# Altium integrated library Analog Devices MEMS Inertial Sensors.IntLib: 109 symbols (part 3 of 6)
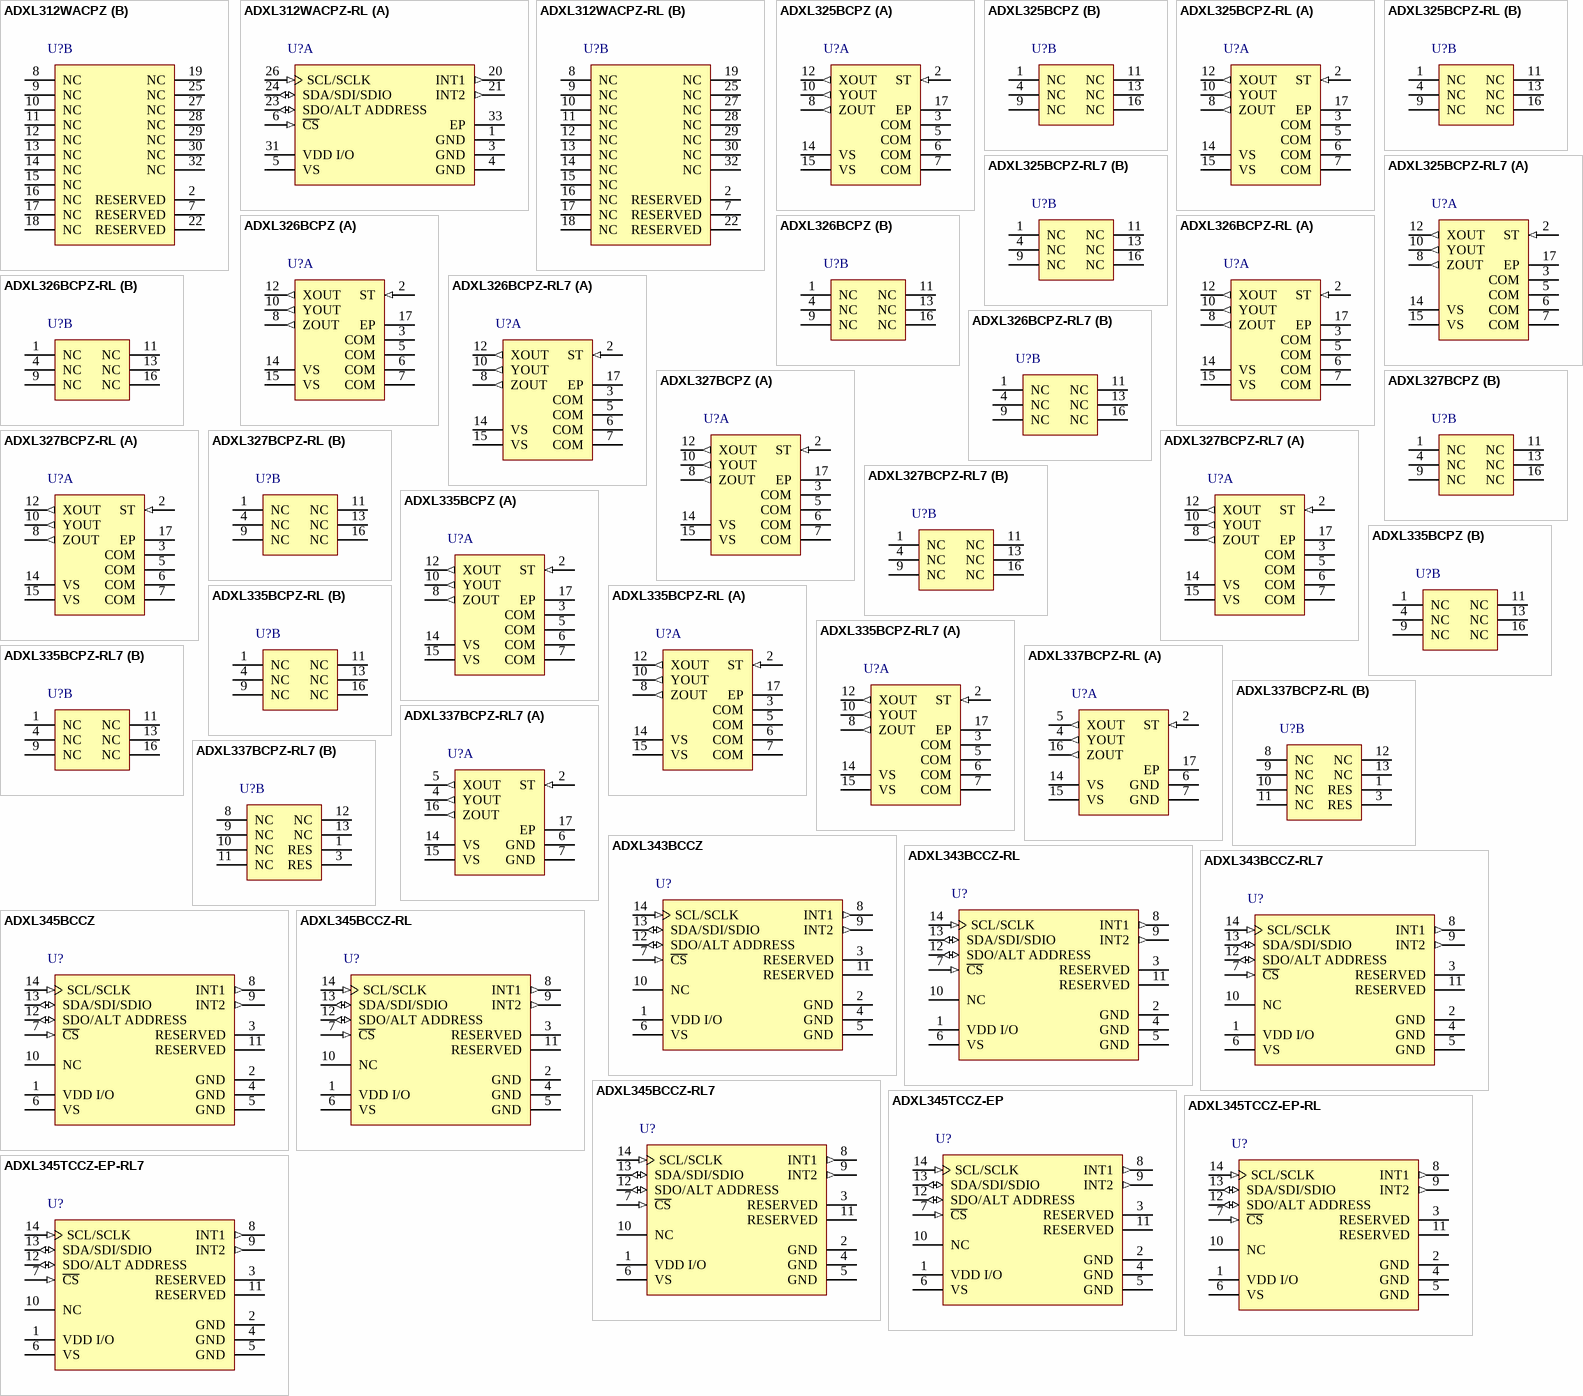
[diagram p7: symbols ADXL312WACPZ to ADXL345TCCZ-EP-RL7]

## ADXL325BCPZ-RL7
designator U?
Small, Low Power, 3-Axis +/-5 g Accelerometer with Analog Output, 1.6 KHz BW, Industrial, 16-pin QFN, Reel; Manufacturer: Analog Devices; PartNumber: ADXL325BCPZ-RL7; # of Axes: 3; -3dB Bandwidth: 1.6 KHz; Sensitivity: 174 mV/g; Supply Current: 350 uA; Voltage Supply (V): 1.8 to 3.6; DatasheetVersion: Rev. 0; PackageVersion: 072606-0, 07/2006; PackageReference: CP-16-5a; PackageDescription: 16-Pin Lead Frame Chip Scale Package, 4 x 4 mm Body, 0.65 mm Pitch; Supplier 1: Digi-Key; Supplier Part Number 1: ADXL325BCPZ-RL7TR-ND; Supplier 2: Digi-Key; Supplier Part Number 2: ADXL325BCPZ-RL7CT-ND; Supplier 3: Digi-Key; Supplier Part Number 3: ADXL325BCPZ-RL7DKR-ND; Supplier 4: Newark; Supplier Part Number 4: 05R6563; Supplier 5: Mouser; Supplier Part Number 5: 584-ADXL325BCPZ-R7; Output Type: Analog; Packing: Reel; Mounting Technology: Surface Mount; ComponentLink1Description: Manufacturer URL; ComponentLink1URL: http://www.analog.com/en/index.html; ComponentLink2Description: Datasheet; ComponentLink2URL: http://www.analog.com/static/imported-files/data_sheets/ADXL325.pdf; ComponentLink3Description: Package Specification; ComponentLink3URL: http:/www.analog.com/static/imported-files/packages/45789401034275374892178CP_16_5a.pdf; ComponentLink4Description: Product URL; ComponentLink4URL: http://www.analog.com/en/mems-sensors/mems-inertial-sensors/adxl325/products/product.html
footprint ADI-CP-16-5a_N (QFN, 16-Leads, Body 4x4mm, Pitch 0.65mm, Thermal Pad 1.75x1.75mm, IPC Medium Density)
footprint ADI-CP-16-5a_L (QFN, 16-Leads, Body 4x4mm, Pitch 0.65mm, Thermal Pad 1.75x1.75mm, IPC High Density)
footprint ADI-CP-16-5a_M (QFN, 16-Leads, Body 4x4mm, Pitch 0.65mm, Thermal Pad 1.75x1.75mm, IPC Low Density)
part A pins: 2 ST (in) "Self-Test.", 3 COM (power) "Common.", 5 COM (power) "Common.", 6 COM (power) "Common.", 7 COM (power) "Common.", 8 ZOUT (out) "Z Channel Output.", 10 YOUT (out) "Y Channel Output.", 12 XOUT (out) "X Channel Output.", 14 VS (power) "Supply Voltage (1.8 V to 3.6 V).", 15 VS (power) "Supply Voltage (1.8 V to 3.6 V).", 17 EP "Not internally connected. Solder for mechanical integrity."
part B pins: 1 NC "No Connect.", 4 NC "No Connect.", 9 NC "No Connect.", 11 NC "No Connect.", 13 NC "No Connect.", 16 NC "No Connect."

## ADXL326BCPZ
designator U?
Small, Low Power, 3-Axis +/-16 g Accelerometer with Analog Output, 1.6 KHz BW, Industrial, 16-pin QFN, Tray; Manufacturer: Analog Devices; PartNumber: ADXL326BCPZ; # of Axes: 3; -3dB Bandwidth: 1.6 KHz; Sensitivity: 57 mV/g; Supply Current: 350 uA; Voltage Supply (V): 1.8 to 3.6; DatasheetVersion: Rev. 0; PackageVersion: 072606-0, 07/2006; PackageReference: CP-16-5a; PackageDescription: 16-Pin Lead Frame Chip Scale Package, 4 x 4 mm Body, 0.65 mm Pitch; Supplier 1: Digi-Key; Supplier Part Number 1: ADXL326BCPZ-ND; Supplier 2: Farnell; Supplier Part Number 2: 1786065; Supplier 3: Newark; Supplier Part Number 3: 05R6564; Supplier 4: Mouser; Supplier Part Number 4: 584-ADXL326BCPZ; Output Type: Analog; Packing: Tray; Mounting Technology: Surface Mount; ComponentLink1Description: Manufacturer URL; ComponentLink1URL: http://www.analog.com/en/index.html; ComponentLink2Description: Datasheet; ComponentLink2URL: http://www.analog.com/static/imported-files/data_sheets/ADXL326.pdf; ComponentLink3Description: Package Specification; ComponentLink3URL: http:/www.analog.com/static/imported-files/packages/45789401034275374892178CP_16_5a.pdf; ComponentLink4Description: Product URL; ComponentLink4URL: http://www.analog.com/en/mems-sensors/mems-inertial-sensors/adxl326/products/product.html
footprint ADI-CP-16-5a_N (QFN, 16-Leads, Body 4x4mm, Pitch 0.65mm, Thermal Pad 1.75x1.75mm, IPC Medium Density)
footprint ADI-CP-16-5a_L (QFN, 16-Leads, Body 4x4mm, Pitch 0.65mm, Thermal Pad 1.75x1.75mm, IPC High Density)
footprint ADI-CP-16-5a_M (QFN, 16-Leads, Body 4x4mm, Pitch 0.65mm, Thermal Pad 1.75x1.75mm, IPC Low Density)
part A pins: 2 ST (in) "Self-Test.", 3 COM (power) "Common.", 5 COM (power) "Common.", 6 COM (power) "Common.", 7 COM (power) "Common.", 8 ZOUT (out) "Z Channel Output.", 10 YOUT (out) "Y Channel Output.", 12 XOUT (out) "X Channel Output.", 14 VS (power) "Supply Voltage (1.8 V to 3.6 V).", 15 VS (power) "Supply Voltage (1.8 V to 3.6 V).", 17 EP "Not internally connected. Solder for mechanical integrity."
part B pins: 1 NC "No Connect.", 4 NC "No Connect.", 9 NC "No Connect.", 11 NC "No Connect.", 13 NC "No Connect.", 16 NC "No Connect."

## ADXL326BCPZ-RL
designator U?
Small, Low Power, 3-Axis +/-16 g Accelerometer with Analog Output, 1.6 KHz BW, Industrial, 16-pin QFN, Reel; Manufacturer: Analog Devices; PartNumber: ADXL326BCPZ-RL; # of Axes: 3; -3dB Bandwidth: 1.6 KHz; Sensitivity: 57 mV/g; Supply Current: 350 uA; Voltage Supply (V): 1.8 to 3.6; DatasheetVersion: Rev. 0; PackageVersion: 072606-0, 07/2006; PackageReference: CP-16-5a; PackageDescription: 16-Pin Lead Frame Chip Scale Package, 4 x 4 mm Body, 0.65 mm Pitch; Supplier 1: Digi-Key; Supplier Part Number 1: ADXL326BCPZ-RL-ND; Supplier 2: Newark; Supplier Part Number 2: 05R6565; Supplier 3: Mouser; Supplier Part Number 3: 584-ADXL326BCPZ-R; Output Type: Analog; Packing: Reel; Mounting Technology: Surface Mount; ComponentLink1Description: Manufacturer URL; ComponentLink1URL: http://www.analog.com/en/index.html; ComponentLink2Description: Datasheet; ComponentLink2URL: http://www.analog.com/static/imported-files/data_sheets/ADXL326.pdf; ComponentLink3Description: Package Specification; ComponentLink3URL: http:/www.analog.com/static/imported-files/packages/45789401034275374892178CP_16_5a.pdf; ComponentLink4Description: Product URL; ComponentLink4URL: http://www.analog.com/en/mems-sensors/mems-inertial-sensors/adxl326/products/product.html
footprint ADI-CP-16-5a_N (QFN, 16-Leads, Body 4x4mm, Pitch 0.65mm, Thermal Pad 1.75x1.75mm, IPC Medium Density)
footprint ADI-CP-16-5a_L (QFN, 16-Leads, Body 4x4mm, Pitch 0.65mm, Thermal Pad 1.75x1.75mm, IPC High Density)
footprint ADI-CP-16-5a_M (QFN, 16-Leads, Body 4x4mm, Pitch 0.65mm, Thermal Pad 1.75x1.75mm, IPC Low Density)
part A pins: 2 ST (in) "Self-Test.", 3 COM (power) "Common.", 5 COM (power) "Common.", 6 COM (power) "Common.", 7 COM (power) "Common.", 8 ZOUT (out) "Z Channel Output.", 10 YOUT (out) "Y Channel Output.", 12 XOUT (out) "X Channel Output.", 14 VS (power) "Supply Voltage (1.8 V to 3.6 V).", 15 VS (power) "Supply Voltage (1.8 V to 3.6 V).", 17 EP "Not internally connected. Solder for mechanical integrity."
part B pins: 1 NC "No Connect.", 4 NC "No Connect.", 9 NC "No Connect.", 11 NC "No Connect.", 13 NC "No Connect.", 16 NC "No Connect."

## ADXL326BCPZ-RL7
designator U?
Small, Low Power, 3-Axis +/-16 g Accelerometer with Analog Output, 1.6 KHz BW, Industrial, 16-pin QFN, Reel; Manufacturer: Analog Devices; PartNumber: ADXL326BCPZ-RL7; # of Axes: 3; -3dB Bandwidth: 1.6 KHz; Sensitivity: 57 mV/g; Supply Current: 350 uA; Voltage Supply (V): 1.8 to 3.6; DatasheetVersion: Rev. 0; PackageVersion: 072606-0, 07/2006; PackageReference: CP-16-5a; PackageDescription: 16-Pin Lead Frame Chip Scale Package, 4 x 4 mm Body, 0.65 mm Pitch; Supplier 1: Digi-Key; Supplier Part Number 1: ADXL326BCPZ-RL7TR-ND; Supplier 2: Digi-Key; Supplier Part Number 2: ADXL326BCPZ-RL7CT-ND; Supplier 3: Digi-Key; Supplier Part Number 3: ADXL326BCPZ-RL7DKR-ND; Supplier 4: Mouser; Supplier Part Number 4: 584-ADXL326BCPZ-R7; Output Type: Analog; Packing: Reel; Mounting Technology: Surface Mount; ComponentLink1Description: Manufacturer URL; ComponentLink1URL: http://www.analog.com/en/index.html; ComponentLink2Description: Datasheet; ComponentLink2URL: http://www.analog.com/static/imported-files/data_sheets/ADXL326.pdf; ComponentLink3Description: Package Specification; ComponentLink3URL: http:/www.analog.com/static/imported-files/packages/45789401034275374892178CP_16_5a.pdf; ComponentLink4Description: Product URL; ComponentLink4URL: http://www.analog.com/en/mems-sensors/mems-inertial-sensors/adxl326/products/product.html
footprint ADI-CP-16-5a_N (QFN, 16-Leads, Body 4x4mm, Pitch 0.65mm, Thermal Pad 1.75x1.75mm, IPC Medium Density)
footprint ADI-CP-16-5a_L (QFN, 16-Leads, Body 4x4mm, Pitch 0.65mm, Thermal Pad 1.75x1.75mm, IPC High Density)
footprint ADI-CP-16-5a_M (QFN, 16-Leads, Body 4x4mm, Pitch 0.65mm, Thermal Pad 1.75x1.75mm, IPC Low Density)
part A pins: 2 ST (in) "Self-Test.", 3 COM (power) "Common.", 5 COM (power) "Common.", 6 COM (power) "Common.", 7 COM (power) "Common.", 8 ZOUT (out) "Z Channel Output.", 10 YOUT (out) "Y Channel Output.", 12 XOUT (out) "X Channel Output.", 14 VS (power) "Supply Voltage (1.8 V to 3.6 V).", 15 VS (power) "Supply Voltage (1.8 V to 3.6 V).", 17 EP "Not internally connected. Solder for mechanical integrity."
part B pins: 1 NC "No Connect.", 4 NC "No Connect.", 9 NC "No Connect.", 11 NC "No Connect.", 13 NC "No Connect.", 16 NC "No Connect."

## ADXL327BCPZ
designator U?
Small, Low Power, 3-Axis +/-2 g Accelerometer with Analog Output, 1.6 KHz BW, Industrial, 16-pin QFN, Tray; Manufacturer: Analog Devices; PartNumber: ADXL327BCPZ; # of Axes: 3; -3dB Bandwidth: 1.6 KHz; Sensitivity: 420 mV/g; Supply Current: 350 uA; Voltage Supply (V): 1.8 to 3.6; DatasheetVersion: Rev. 0; PackageVersion: 072606-0, 07/2006; PackageReference: CP-16-5a; PackageDescription: 16-Pin Lead Frame Chip Scale Package, 4 x 4 mm Body, 0.65 mm Pitch; Supplier 1: Digi-Key; Supplier Part Number 1: ADXL327BCPZ-ND; Supplier 2: Farnell; Supplier Part Number 2: 1786066; Supplier 3: Newark; Supplier Part Number 3: 05R6567; Supplier 4: Mouser; Supplier Part Number 4: 584-ADXL327BCPZ; Output Type: Analog; Packing: Tray; Mounting Technology: Surface Mount; ComponentLink1Description: Manufacturer URL; ComponentLink1URL: http://www.analog.com/en/index.html; ComponentLink2Description: Datasheet; ComponentLink2URL: http://www.analog.com/static/imported-files/data_sheets/ADXL327.pdf; ComponentLink3Description: Package Specification; ComponentLink3URL: http:/www.analog.com/static/imported-files/packages/45789401034275374892178CP_16_5a.pdf; ComponentLink4Description: Product URL; ComponentLink4URL: http://www.analog.com/en/mems-sensors/mems-inertial-sensors/adxl327/products/product.html
footprint ADI-CP-16-5a_N (QFN, 16-Leads, Body 4x4mm, Pitch 0.65mm, Thermal Pad 1.75x1.75mm, IPC Medium Density)
footprint ADI-CP-16-5a_L (QFN, 16-Leads, Body 4x4mm, Pitch 0.65mm, Thermal Pad 1.75x1.75mm, IPC High Density)
footprint ADI-CP-16-5a_M (QFN, 16-Leads, Body 4x4mm, Pitch 0.65mm, Thermal Pad 1.75x1.75mm, IPC Low Density)
part A pins: 2 ST (in) "Self-Test.", 3 COM (power) "Common.", 5 COM (power) "Common.", 6 COM (power) "Common.", 7 COM (power) "Common.", 8 ZOUT (out) "Z Channel Output.", 10 YOUT (out) "Y Channel Output.", 12 XOUT (out) "X Channel Output.", 14 VS (power) "Supply Voltage (1.8 V to 3.6 V).", 15 VS (power) "Supply Voltage (1.8 V to 3.6 V).", 17 EP "Not internally connected. Solder for mechanical integrity."
part B pins: 1 NC "No Connect.", 4 NC "No Connect.", 9 NC "No Connect.", 11 NC "No Connect.", 13 NC "No Connect.", 16 NC "No Connect."

## ADXL327BCPZ-RL
designator U?
Small, Low Power, 3-Axis +/-2 g Accelerometer with Analog Output, 1.6 KHz BW, Industrial, 16-pin QFN, Reel; Manufacturer: Analog Devices; PartNumber: ADXL327BCPZ-RL; # of Axes: 3; -3dB Bandwidth: 1.6 KHz; Sensitivity: 420 mV/g; Supply Current: 350 uA; Voltage Supply (V): 1.8 to 3.6; DatasheetVersion: Rev. 0; PackageVersion: 072606-0, 07/2006; PackageReference: CP-16-5a; PackageDescription: 16-Pin Lead Frame Chip Scale Package, 4 x 4 mm Body, 0.65 mm Pitch; Supplier 1: Digi-Key; Supplier Part Number 1: ADXL327BCPZ-RL-ND; Supplier 2: Newark; Supplier Part Number 2: 05R6568; Supplier 3: Mouser; Supplier Part Number 3: 584-ADXL327BCPZ-R; Output Type: Analog; Packing: Reel; Mounting Technology: Surface Mount; ComponentLink1Description: Manufacturer URL; ComponentLink1URL: http://www.analog.com/en/index.html; ComponentLink2Description: Datasheet; ComponentLink2URL: http://www.analog.com/static/imported-files/data_sheets/ADXL327.pdf; ComponentLink3Description: Package Specification; ComponentLink3URL: http:/www.analog.com/static/imported-files/packages/45789401034275374892178CP_16_5a.pdf; ComponentLink4Description: Product URL; ComponentLink4URL: http://www.analog.com/en/mems-sensors/mems-inertial-sensors/adxl327/products/product.html
footprint ADI-CP-16-5a_N (QFN, 16-Leads, Body 4x4mm, Pitch 0.65mm, Thermal Pad 1.75x1.75mm, IPC Medium Density)
footprint ADI-CP-16-5a_L (QFN, 16-Leads, Body 4x4mm, Pitch 0.65mm, Thermal Pad 1.75x1.75mm, IPC High Density)
footprint ADI-CP-16-5a_M (QFN, 16-Leads, Body 4x4mm, Pitch 0.65mm, Thermal Pad 1.75x1.75mm, IPC Low Density)
part A pins: 2 ST (in) "Self-Test.", 3 COM (power) "Common.", 5 COM (power) "Common.", 6 COM (power) "Common.", 7 COM (power) "Common.", 8 ZOUT (out) "Z Channel Output.", 10 YOUT (out) "Y Channel Output.", 12 XOUT (out) "X Channel Output.", 14 VS (power) "Supply Voltage (1.8 V to 3.6 V).", 15 VS (power) "Supply Voltage (1.8 V to 3.6 V).", 17 EP "Not internally connected. Solder for mechanical integrity."
part B pins: 1 NC "No Connect.", 4 NC "No Connect.", 9 NC "No Connect.", 11 NC "No Connect.", 13 NC "No Connect.", 16 NC "No Connect."

## ADXL327BCPZ-RL7
designator U?
Small, Low Power, 3-Axis +/-2 g Accelerometer with Analog Output, 1.6 KHz BW, Industrial, 16-pin QFN, Reel; Manufacturer: Analog Devices; PartNumber: ADXL327BCPZ-RL7; # of Axes: 3; -3dB Bandwidth: 1.6 KHz; Sensitivity: 420 mV/g; Supply Current: 350 uA; Voltage Supply (V): 1.8 to 3.6; DatasheetVersion: Rev. 0; PackageVersion: 072606-0, 07/2006; PackageReference: CP-16-5a; PackageDescription: 16-Pin Lead Frame Chip Scale Package, 4 x 4 mm Body, 0.65 mm Pitch; Supplier 1: Digi-Key; Supplier Part Number 1: ADXL327BCPZ-RL7TR-ND; Supplier 2: Digi-Key; Supplier Part Number 2: ADXL327BCPZ-RL7CT-ND; Supplier 3: Digi-Key; Supplier Part Number 3: ADXL327BCPZ-RL7DKR-ND; Supplier 4: Newark; Supplier Part Number 4: 05R6569; Supplier 5: Mouser; Supplier Part Number 5: 584-ADXL327BCPZ-R7; Output Type: Analog; Packing: Reel; Mounting Technology: Surface Mount; ComponentLink1Description: Manufacturer URL; ComponentLink1URL: http://www.analog.com/en/index.html; ComponentLink2Description: Datasheet; ComponentLink2URL: http://www.analog.com/static/imported-files/data_sheets/ADXL327.pdf; ComponentLink3Description: Package Specification; ComponentLink3URL: http:/www.analog.com/static/imported-files/packages/45789401034275374892178CP_16_5a.pdf; ComponentLink4Description: Product URL; ComponentLink4URL: http://www.analog.com/en/mems-sensors/mems-inertial-sensors/adxl327/products/product.html
footprint ADI-CP-16-5a_N (QFN, 16-Leads, Body 4x4mm, Pitch 0.65mm, Thermal Pad 1.75x1.75mm, IPC Medium Density)
footprint ADI-CP-16-5a_L (QFN, 16-Leads, Body 4x4mm, Pitch 0.65mm, Thermal Pad 1.75x1.75mm, IPC High Density)
footprint ADI-CP-16-5a_M (QFN, 16-Leads, Body 4x4mm, Pitch 0.65mm, Thermal Pad 1.75x1.75mm, IPC Low Density)
part A pins: 2 ST (in) "Self-Test.", 3 COM (power) "Common.", 5 COM (power) "Common.", 6 COM (power) "Common.", 7 COM (power) "Common.", 8 ZOUT (out) "Z Channel Output.", 10 YOUT (out) "Y Channel Output.", 12 XOUT (out) "X Channel Output.", 14 VS (power) "Supply Voltage (1.8 V to 3.6 V).", 15 VS (power) "Supply Voltage (1.8 V to 3.6 V).", 17 EP "Not internally connected. Solder for mechanical integrity."
part B pins: 1 NC "No Connect.", 4 NC "No Connect.", 9 NC "No Connect.", 11 NC "No Connect.", 13 NC "No Connect.", 16 NC "No Connect."

## ADXL335BCPZ
designator U?
Small, Low Power, 3-Axis +/-3 g Accelerometer with Analog Output, 1.6 KHz BW, Industrial, 16-pin QFN, Tray; Manufacturer: Analog Devices; PartNumber: ADXL335BCPZ; # of Axes: 3; -3dB Bandwidth: 1.6 KHz; Sensitivity: 300 mV/g; Supply Current: 350 uA; Voltage Supply (V): 1.8 to 3.6; DatasheetVersion: Rev. B; PackageVersion: 051909-A, 05/2009; PackageReference: CP-16-14; PackageDescription: 16-Pin Lead Frame Chip Scale Package, 4 x 4 mm Body, 0.65 mm Pitch; Supplier 1: Digi-Key; Supplier Part Number 1: ADXL335BCPZ-ND; Supplier 2: Farnell; Supplier Part Number 2: 2068032; Supplier 3: Newark; Supplier Part Number 3: 45P6448; Supplier 4: Mouser; Supplier Part Number 4: 584-ADXL335BCPZ; Output Type: Analog; Packing: Tray; Mounting Technology: Surface Mount; Code_JEDEC: MO-220-WGGD; ComponentLink1Description: Manufacturer URL; ComponentLink1URL: http://www.analog.com/en/index.html; ComponentLink2Description: Datasheet; ComponentLink2URL: http://www.analog.com/static/imported-files/data_sheets/ADXL335.pdf; ComponentLink3Description: Package Specification; ComponentLink3URL: http:/www.analog.com/static/imported-files/packages/PKG_PDF/LFCSP(CP)/CP-16/CP_16_14.pdf; ComponentLink4Description: Product URL; ComponentLink4URL: http://www.analog.com/en/mems-sensors/mems-inertial-sensors/adxl335/products/product.html
footprint ADI-CP-16-14_N (QFN, 16-Leads, Body 4x4mm, Pitch 0.65mm, Thermal Pad 2.4x2.4mm, IPC Medium Density)
footprint ADI-CP-16-14_L (QFN, 16-Leads, Body 4x4mm, Pitch 0.65mm, Thermal Pad 2.4x2.4mm, IPC High Density)
footprint ADI-CP-16-14_M (QFN, 16-Leads, Body 4x4mm, Pitch 0.65mm, Thermal Pad 2.4x2.4mm, IPC Low Density)
part A pins: 2 ST (in) "Self-Test.", 3 COM (power) "Common.", 5 COM (power) "Common.", 6 COM (power) "Common.", 7 COM (power) "Common.", 8 ZOUT (out) "Z Channel Output.", 10 YOUT (out) "Y Channel Output.", 12 XOUT (out) "X Channel Output.", 14 VS (power) "Supply Voltage (1.8 V to 3.6 V).", 15 VS (power) "Supply Voltage (1.8 V to 3.6 V).", 17 EP "Not internally connected. Solder for mechanical integrity."
part B pins: 1 NC "No Connect.", 4 NC "No Connect.", 9 NC "No Connect.", 11 NC "No Connect.", 13 NC "No Connect.", 16 NC "No Connect."

## ADXL335BCPZ-RL
designator U?
Small, Low Power, 3-Axis +/-3 g Accelerometer with Analog Output, 1.6 KHz BW, Industrial, 16-pin QFN, Reel; Manufacturer: Analog Devices; PartNumber: ADXL335BCPZ-RL; # of Axes: 3; -3dB Bandwidth: 1.6 KHz; Sensitivity: 300 mV/g; Supply Current: 350 uA; Voltage Supply (V): 1.8 to 3.6; DatasheetVersion: Rev. B; PackageVersion: 051909-A, 05/2009; PackageReference: CP-16-14; PackageDescription: 16-Pin Lead Frame Chip Scale Package, 4 x 4 mm Body, 0.65 mm Pitch; Supplier 1: Digi-Key; Supplier Part Number 1: ADXL335BCPZ-RL-ND; Supplier 2: Newark; Supplier Part Number 2: 45P6449; Supplier 3: Mouser; Supplier Part Number 3: 584-ADXL335BCPZ-R; Output Type: Analog; Packing: Reel; Mounting Technology: Surface Mount; Code_JEDEC: MO-220-WGGD; ComponentLink1Description: Manufacturer URL; ComponentLink1URL: http://www.analog.com/en/index.html; ComponentLink2Description: Datasheet; ComponentLink2URL: http://www.analog.com/static/imported-files/data_sheets/ADXL335.pdf; ComponentLink3Description: Package Specification; ComponentLink3URL: http:/www.analog.com/static/imported-files/packages/PKG_PDF/LFCSP(CP)/CP-16/CP_16_14.pdf; ComponentLink4Description: Product URL; ComponentLink4URL: http://www.analog.com/en/mems-sensors/mems-inertial-sensors/adxl335/products/product.html
footprint ADI-CP-16-14_N (QFN, 16-Leads, Body 4x4mm, Pitch 0.65mm, Thermal Pad 2.4x2.4mm, IPC Medium Density)
footprint ADI-CP-16-14_L (QFN, 16-Leads, Body 4x4mm, Pitch 0.65mm, Thermal Pad 2.4x2.4mm, IPC High Density)
footprint ADI-CP-16-14_M (QFN, 16-Leads, Body 4x4mm, Pitch 0.65mm, Thermal Pad 2.4x2.4mm, IPC Low Density)
part A pins: 2 ST (in) "Self-Test.", 3 COM (power) "Common.", 5 COM (power) "Common.", 6 COM (power) "Common.", 7 COM (power) "Common.", 8 ZOUT (out) "Z Channel Output.", 10 YOUT (out) "Y Channel Output.", 12 XOUT (out) "X Channel Output.", 14 VS (power) "Supply Voltage (1.8 V to 3.6 V).", 15 VS (power) "Supply Voltage (1.8 V to 3.6 V).", 17 EP "Not internally connected. Solder for mechanical integrity."
part B pins: 1 NC "No Connect.", 4 NC "No Connect.", 9 NC "No Connect.", 11 NC "No Connect.", 13 NC "No Connect.", 16 NC "No Connect."

## ADXL335BCPZ-RL7
designator U?
Small, Low Power, 3-Axis +/-3 g Accelerometer with Analog Output, 1.6 KHz BW, Industrial, 16-pin QFN, Reel; Manufacturer: Analog Devices; PartNumber: ADXL335BCPZ-RL7; # of Axes: 3; -3dB Bandwidth: 1.6 KHz; Sensitivity: 300 mV/g; Supply Current: 350 uA; Voltage Supply (V): 1.8 to 3.6; DatasheetVersion: Rev. B; PackageVersion: 051909-A, 05/2009; PackageReference: CP-16-14; PackageDescription: 16-Pin Lead Frame Chip Scale Package, 4 x 4 mm Body, 0.65 mm Pitch; Supplier 1: Digi-Key; Supplier Part Number 1: ADXL335BCPZ-RL7TR-ND; Supplier 2: Digi-Key; Supplier Part Number 2: ADXL335BCPZ-RL7CT-ND; Supplier 3: Digi-Key; Supplier Part Number 3: ADXL335BCPZ-RL7DKR-ND; Supplier 4: Newark; Supplier Part Number 4: 45P6450; Supplier 5: Mouser; Supplier Part Number 5: 584-ADXL335BCPZ-R7; Output Type: Analog; Packing: Reel; Mounting Technology: Surface Mount; Code_JEDEC: MO-220-WGGD; ComponentLink1Description: Manufacturer URL; ComponentLink1URL: http://www.analog.com/en/index.html; ComponentLink2Description: Datasheet; ComponentLink2URL: http://www.analog.com/static/imported-files/data_sheets/ADXL335.pdf; ComponentLink3Description: Package Specification; ComponentLink3URL: http:/www.analog.com/static/imported-files/packages/PKG_PDF/LFCSP(CP)/CP-16/CP_16_14.pdf; ComponentLink4Description: Product URL; ComponentLink4URL: http://www.analog.com/en/mems-sensors/mems-inertial-sensors/adxl335/products/product.html
footprint ADI-CP-16-14_N (QFN, 16-Leads, Body 4x4mm, Pitch 0.65mm, Thermal Pad 2.4x2.4mm, IPC Medium Density)
footprint ADI-CP-16-14_L (QFN, 16-Leads, Body 4x4mm, Pitch 0.65mm, Thermal Pad 2.4x2.4mm, IPC High Density)
footprint ADI-CP-16-14_M (QFN, 16-Leads, Body 4x4mm, Pitch 0.65mm, Thermal Pad 2.4x2.4mm, IPC Low Density)
part A pins: 2 ST (in) "Self-Test.", 3 COM (power) "Common.", 5 COM (power) "Common.", 6 COM (power) "Common.", 7 COM (power) "Common.", 8 ZOUT (out) "Z Channel Output.", 10 YOUT (out) "Y Channel Output.", 12 XOUT (out) "X Channel Output.", 14 VS (power) "Supply Voltage (1.8 V to 3.6 V).", 15 VS (power) "Supply Voltage (1.8 V to 3.6 V).", 17 EP "Not internally connected. Solder for mechanical integrity."
part B pins: 1 NC "No Connect.", 4 NC "No Connect.", 9 NC "No Connect.", 11 NC "No Connect.", 13 NC "No Connect.", 16 NC "No Connect."

## ADXL337BCPZ-RL
designator U?
Small, Low Power, 3-Axis +/-3 g Accelerometer with Analog Output, 1.6 KHz BW, Industrial, 16-pin QFN, Reel; Manufacturer: Analog Devices; PartNumber: ADXL337BCPZ-RL; # of Axes: 3; -3dB Bandwidth: 1.6 KHz; Sensitivity: 300 mV/g; Supply Current: 300 uA; Voltage Supply (V): 1.8 to 3.6; DatasheetVersion: Rev. 0; PackageVersion: 04-27-2010-A, 04/2010; PackageReference: CP-16-28; PackageDescription: 16-Pin Lead Frame Chip Scale Package, 3 x 3 mm Body, 0.5 mm Pitch; Supplier 1: Digi-Key; Supplier Part Number 1: ADXL337BCPZ-RLTR-ND; Supplier 2: Digi-Key; Supplier Part Number 2: ADXL337BCPZ-RLCT-ND; Supplier 3: Digi-Key; Supplier Part Number 3: ADXL337BCPZ-RLDKR-ND; Supplier 4: Newark; Supplier Part Number 4: 23T4177; Supplier 5: Mouser; Supplier Part Number 5: 584-ADXL337BCPZ-R; Output Type: Analog; Packing: Reel; Mounting Technology: Surface Mount; ComponentLink1Description: Manufacturer URL; ComponentLink1URL: http://www.analog.com/en/index.html; ComponentLink2Description: Datasheet; ComponentLink2URL: http://www.analog.com/static/imported-files/data_sheets/ADXL337.pdf; ComponentLink3Description: Package Specification; ComponentLink3URL: http:/www.analog.com/static/imported-files/packages/PKG_PDF/LFCSP(CP)/CP_16_28.pdf; ComponentLink4Description: Product URL; ComponentLink4URL: http://www.analog.com/en/mems-sensors/mems-inertial-sensors/adxl337/products/product.html
footprint ADI-CP-16-28_N (QFN, 16-Leads, Body 3x3mm, Pitch 0.5mm, Thermal Pad 1.6x1.6mm, IPC Medium Density)
footprint ADI-CP-16-28_L (QFN, 16-Leads, Body 3x3mm, Pitch 0.5mm, Thermal Pad 1.6x1.6mm, IPC High Density)
footprint ADI-CP-16-28_M (QFN, 16-Leads, Body 3x3mm, Pitch 0.5mm, Thermal Pad 1.6x1.6mm, IPC Low Density)
part A pins: 2 ST (in) "Self Test.", 4 YOUT (out) "Y Channel Output.", 5 XOUT (out) "X Channel Output.", 6 GND (power) "Must be connected to ground.", 7 GND (power) "Must be connected to ground.", 14 VS (power) "Supply Voltage (3.0 V typical).", 15 VS (power) "Supply Voltage (3.0 V typical).", 16 ZOUT (out) "Z Channel Output.", 17 EP "Exposed Pad. Not internally connected but should be soldered for mechanical integrity."
part B pins: 1 RES "Reserved. This pin must be connected to GND or left open.", 3 RES "Reserved. This pin must be connected to GND or left open.", 8 NC "Not internally connected.", 9 NC "Not internally connected.", 10 NC "Not internally connected.", 11 NC "Not internally connected.", 12 NC "Not internally connected.", 13 NC "Not internally connected."

## ADXL337BCPZ-RL7
designator U?
Small, Low Power, 3-Axis +/-3 g Accelerometer with Analog Output, 1.6 KHz BW, Industrial, 16-pin QFN, Reel; Manufacturer: Analog Devices; PartNumber: ADXL337BCPZ-RL7; # of Axes: 3; -3dB Bandwidth: 1.6 KHz; Sensitivity: 300 mV/g; Supply Current: 300 uA; Voltage Supply (V): 1.8 to 3.6; DatasheetVersion: Rev. 0; PackageVersion: 04-27-2010-A, 04/2010; PackageReference: CP-16-28; PackageDescription: 16-Pin Lead Frame Chip Scale Package, 3 x 3 mm Body, 0.5 mm Pitch; Supplier 1: Digi-Key; Supplier Part Number 1: ADXL337BCPZ-RL7TR-ND; Supplier 2: Digi-Key; Supplier Part Number 2: ADXL337BCPZ-RL7CT-ND; Supplier 3: Digi-Key; Supplier Part Number 3: ADXL337BCPZ-RL7DKR-ND; Supplier 4: Farnell; Supplier Part Number 4: 2126001; Supplier 5: Farnell; Supplier Part Number 5: 2369062; Supplier 6: Newark; Supplier Part Number 6: 23T4178; Supplier 7: Newark; Supplier Part Number 7: 94T2513; Supplier 8: Mouser; Supplier Part Number 8: 584-ADXL337BCPZ-R7; Output Type: Analog; Packing: Reel; Mounting Technology: Surface Mount; ComponentLink1Description: Manufacturer URL; ComponentLink1URL: http://www.analog.com/en/index.html; ComponentLink2Description: Datasheet; ComponentLink2URL: http://www.analog.com/static/imported-files/data_sheets/ADXL337.pdf; ComponentLink3Description: Package Specification; ComponentLink3URL: http:/www.analog.com/static/imported-files/packages/PKG_PDF/LFCSP(CP)/CP_16_28.pdf; ComponentLink4Description: Product URL; ComponentLink4URL: http://www.analog.com/en/mems-sensors/mems-inertial-sensors/adxl337/products/product.html
footprint ADI-CP-16-28_N (QFN, 16-Leads, Body 3x3mm, Pitch 0.5mm, Thermal Pad 1.6x1.6mm, IPC Medium Density)
footprint ADI-CP-16-28_L (QFN, 16-Leads, Body 3x3mm, Pitch 0.5mm, Thermal Pad 1.6x1.6mm, IPC High Density)
footprint ADI-CP-16-28_M (QFN, 16-Leads, Body 3x3mm, Pitch 0.5mm, Thermal Pad 1.6x1.6mm, IPC Low Density)
part A pins: 2 ST (in) "Self Test.", 4 YOUT (out) "Y Channel Output.", 5 XOUT (out) "X Channel Output.", 6 GND (power) "Must be connected to ground.", 7 GND (power) "Must be connected to ground.", 14 VS (power) "Supply Voltage (3.0 V typical).", 15 VS (power) "Supply Voltage (3.0 V typical).", 16 ZOUT (out) "Z Channel Output.", 17 EP "Exposed Pad. Not internally connected but should be soldered for mechanical integrity."
part B pins: 1 RES "Reserved. This pin must be connected to GND or left open.", 3 RES "Reserved. This pin must be connected to GND or left open.", 8 NC "Not internally connected.", 9 NC "Not internally connected.", 10 NC "Not internally connected.", 11 NC "Not internally connected.", 12 NC "Not internally connected.", 13 NC "Not internally connected."

## ADXL343BCCZ
designator U?
3-Axis, +/-2 g / +/-4 g / +/-8 g / +/-16 g Digital MEMS Accelerometer with Digital Output, 1.6 KHz BW, Industrial, 14-pin LGA, Tray; Manufacturer: Analog Devices; PartNumber: ADXL343BCCZ; # of Axes: 3; -3dB Bandwidth: 1.6 KHz; Sensitivity: 256/128/64/32 LSB/g; Voltage Supply (V): 2.0 to 3.6; DatasheetVersion: Rev. 0; PackageVersion: 03-16-2010-A, 03/2010; PackageReference: CC-14-1; PackageDescription: 14-Pin Land Grid Array, 3 x 5 mm Body, 0.8 mm Pitch; Supplier 1: Digi-Key; Supplier Part Number 1: ADXL343BCCZ-ND; Supplier 2: Farnell; Supplier Part Number 2: 2191716; Supplier 3: Newark; Supplier Part Number 3: 90T1358; Supplier 4: Newark; Supplier Part Number 4: 43W5524; Supplier 5: Mouser; Supplier Part Number 5: 584-ADXL343BCCZ; Output Type: Digital; Packing: Tray; Mounting Technology: Surface Mount; ComponentLink1Description: Manufacturer URL; ComponentLink1URL: http://www.analog.com/en/index.html; ComponentLink2Description: Datasheet; ComponentLink2URL: http://www.analog.com/static/imported-files/data_sheets/ADXL343.pdf; ComponentLink3Description: Package Specification; ComponentLink3URL: http://www.analog.com/static/imported-files/data_sheets/ADXL343.pdf; ComponentLink4Description: Product URL; ComponentLink4URL: http://www.analog.com/en/mems-sensors/mems-inertial-sensors/adxl343/products/product.html
footprint ADI-CC-14-1_V (QFN, 14-Leads, Body 5x3mm, Pitch 0.8mm)
pins: 1 VDD I/O (power) "Digital Interface Supply Voltage.", 2 GND (power) "This pin must be connected to ground.", 3 RESERVED "Reserved. This pin must be connected to VS or left open.", 4 GND (power) "This pin must be connected to ground.", 5 GND (power) "This pin must be connected to ground.", 6 VS (power) "Supply Voltage.", 7 ~{CS} (in) "Chip Select.", 8 INT1 (out) "Interrupt 1 Output.", 9 INT2 (out) "Interrupt 2 Output.", 10 NC "Not Internally Connected.", 11 RESERVED "Reserved. This pin must be connected to ground or left open.", 12 SDO/ALT ADDRESS (io) "Serial Data Output (SPI 4-Wire)/Alternate I2C Address Select (I2C).", 13 SDA/SDI/SDIO (io) "Serial Data (I2C)/Serial Data Input (SPI 4-Wire)/Serial Data Input and Output (SPI 3-Wire).", 14 SCL/SCLK (in) "Serial Communications Clock. SCL is the clock for I2C, and SCLK is the clock for SPI."

## ADXL343BCCZ-RL
designator U?
3-Axis, +/-2 g / +/-4 g / +/-8 g / +/-16 g Digital MEMS Accelerometer with Digital Output, 1.6 KHz BW, Industrial, 14-pin LGA, Reel; Manufacturer: Analog Devices; PartNumber: ADXL343BCCZ-RL; # of Axes: 3; -3dB Bandwidth: 1.6 KHz; Sensitivity: 256/128/64/32 LSB/g; Voltage Supply (V): 2.0 to 3.6; DatasheetVersion: Rev. 0; PackageVersion: 03-16-2010-A, 03/2010; PackageReference: CC-14-1; PackageDescription: 14-Pin Land Grid Array, 3 x 5 mm Body, 0.8 mm Pitch; Supplier 1: Digi-Key; Supplier Part Number 1: ADXL343BCCZ-RL-ND; Supplier 2: Newark; Supplier Part Number 2: 90T1359; Supplier 3: Mouser; Supplier Part Number 3: 584-ADXL343BCCZ-R; Output Type: Digital; Packing: Reel; Mounting Technology: Surface Mount; ComponentLink1Description: Manufacturer URL; ComponentLink1URL: http://www.analog.com/en/index.html; ComponentLink2Description: Datasheet; ComponentLink2URL: http://www.analog.com/static/imported-files/data_sheets/ADXL343.pdf; ComponentLink3Description: Package Specification; ComponentLink3URL: http://www.analog.com/static/imported-files/data_sheets/ADXL343.pdf; ComponentLink4Description: Product URL; ComponentLink4URL: http://www.analog.com/en/mems-sensors/mems-inertial-sensors/adxl343/products/product.html
footprint ADI-CC-14-1_V (QFN, 14-Leads, Body 5x3mm, Pitch 0.8mm)
pins: 1 VDD I/O (power) "Digital Interface Supply Voltage.", 2 GND (power) "This pin must be connected to ground.", 3 RESERVED "Reserved. This pin must be connected to VS or left open.", 4 GND (power) "This pin must be connected to ground.", 5 GND (power) "This pin must be connected to ground.", 6 VS (power) "Supply Voltage.", 7 ~{CS} (in) "Chip Select.", 8 INT1 (out) "Interrupt 1 Output.", 9 INT2 (out) "Interrupt 2 Output.", 10 NC "Not Internally Connected.", 11 RESERVED "Reserved. This pin must be connected to ground or left open.", 12 SDO/ALT ADDRESS (io) "Serial Data Output (SPI 4-Wire)/Alternate I2C Address Select (I2C).", 13 SDA/SDI/SDIO (io) "Serial Data (I2C)/Serial Data Input (SPI 4-Wire)/Serial Data Input and Output (SPI 3-Wire).", 14 SCL/SCLK (in) "Serial Communications Clock. SCL is the clock for I2C, and SCLK is the clock for SPI."

## ADXL343BCCZ-RL7
designator U?
3-Axis, +/-2 g / +/-4 g / +/-8 g / +/-16 g Digital MEMS Accelerometer with Digital Output, 1.6 KHz BW, Industrial, 14-pin LGA, Reel; Manufacturer: Analog Devices; PartNumber: ADXL343BCCZ-RL7; # of Axes: 3; -3dB Bandwidth: 1.6 KHz; Sensitivity: 256/128/64/32 LSB/g; Voltage Supply (V): 2.0 to 3.6; DatasheetVersion: Rev. 0; PackageVersion: 03-16-2010-A, 03/2010; PackageReference: CC-14-1; PackageDescription: 14-Pin Land Grid Array, 3 x 5 mm Body, 0.8 mm Pitch; Supplier 1: Digi-Key; Supplier Part Number 1: ADXL343BCCZ-RL7-ND; Supplier 2: Mouser; Supplier Part Number 2: 584-ADXL343BCCZ-R7; Output Type: Digital; Packing: Reel; Mounting Technology: Surface Mount; ComponentLink1Description: Manufacturer URL; ComponentLink1URL: http://www.analog.com/en/index.html; ComponentLink2Description: Datasheet; ComponentLink2URL: http://www.analog.com/static/imported-files/data_sheets/ADXL343.pdf; ComponentLink3Description: Package Specification; ComponentLink3URL: http://www.analog.com/static/imported-files/data_sheets/ADXL343.pdf; ComponentLink4Description: Product URL; ComponentLink4URL: http://www.analog.com/en/mems-sensors/mems-inertial-sensors/adxl343/products/product.html
footprint ADI-CC-14-1_V (QFN, 14-Leads, Body 5x3mm, Pitch 0.8mm)
pins: 1 VDD I/O (power) "Digital Interface Supply Voltage.", 2 GND (power) "This pin must be connected to ground.", 3 RESERVED "Reserved. This pin must be connected to VS or left open.", 4 GND (power) "This pin must be connected to ground.", 5 GND (power) "This pin must be connected to ground.", 6 VS (power) "Supply Voltage.", 7 ~{CS} (in) "Chip Select.", 8 INT1 (out) "Interrupt 1 Output.", 9 INT2 (out) "Interrupt 2 Output.", 10 NC "Not Internally Connected.", 11 RESERVED "Reserved. This pin must be connected to ground or left open.", 12 SDO/ALT ADDRESS (io) "Serial Data Output (SPI 4-Wire)/Alternate I2C Address Select (I2C).", 13 SDA/SDI/SDIO (io) "Serial Data (I2C)/Serial Data Input (SPI 4-Wire)/Serial Data Input and Output (SPI 3-Wire).", 14 SCL/SCLK (in) "Serial Communications Clock. SCL is the clock for I2C, and SCLK is the clock for SPI."

## ADXL345BCCZ
designator U?
3-Axis, +/-2 g / +/-4 g / +/-8 g / +/-16 g Digital Accelerometer with Digital Output, 1.6 KHz BW, Industrial, 14-pin LGA, Tray; Manufacturer: Analog Devices; PartNumber: ADXL345BCCZ; # of Axes: 3; -3dB Bandwidth: 1.6 KHz; Sensitivity: 256/128/64/32 LSB/g; Supply Current: 140 uA; Voltage Supply (V): 2.0 to 3.6; DatasheetVersion: Rev. D; PackageVersion: 03-16-2010-A, 03/2010; PackageReference: CC-14-1; PackageDescription: 14-Pin Land Grid Array, 3 x 5 mm Body, 0.8 mm Pitch; Supplier 1: Digi-Key; Supplier Part Number 1: ADXL345BCCZ-ND; Supplier 2: Farnell; Supplier Part Number 2: 1853935; Supplier 3: Newark; Supplier Part Number 3: 04R8114; Supplier 4: Mouser; Supplier Part Number 4: 584-ADXL345BCCZ; Output Type: Digital; Packing: Tray; Mounting Technology: Surface Mount; ComponentLink1Description: Manufacturer URL; ComponentLink1URL: http://www.analog.com/en/index.html; ComponentLink2Description: Datasheet; ComponentLink2URL: http://www.analog.com/static/imported-files/data_sheets/ADXL345.pdf; ComponentLink3Description: Package Specification; ComponentLink3URL: http://www.analog.com/static/imported-files/data_sheets/ADXL343.pdf; ComponentLink4Description: Product URL; ComponentLink4URL: http://www.analog.com/en/mems-sensors/mems-inertial-sensors/adxl345/products/product.html
footprint ADI-CC-14-1_V (QFN, 14-Leads, Body 5x3mm, Pitch 0.8mm)
pins: 1 VDD I/O (power) "Digital Interface Supply Voltage.", 2 GND (power) "This pin must be connected to ground.", 3 RESERVED "Reserved. This pin must be connected to VS or left open.", 4 GND (power) "This pin must be connected to ground.", 5 GND (power) "This pin must be connected to ground.", 6 VS (power) "Supply Voltage.", 7 ~{CS} (in) "Chip Select.", 8 INT1 (out) "Interrupt 1 Output.", 9 INT2 (out) "Interrupt 2 Output.", 10 NC "Not Internally Connected.", 11 RESERVED "Reserved. This pin must be connected to ground or left open.", 12 SDO/ALT ADDRESS (io) "Serial Data Output (SPI 4-Wire)/Alternate I2C Address Select (I2C).", 13 SDA/SDI/SDIO (io) "Serial Data (I2C)/Serial Data Input (SPI 4-Wire)/Serial Data Input and Output (SPI 3-Wire).", 14 SCL/SCLK (in) "Serial Communications Clock. SCL is the clock for I2C, and SCLK is the clock for SPI."

## ADXL345BCCZ-RL
designator U?
3-Axis, +/-2 g / +/-4 g / +/-8 g / +/-16 g Digital Accelerometer with Digital Output, 1.6 KHz BW, Industrial, 14-pin LGA, Reel; Manufacturer: Analog Devices; PartNumber: ADXL345BCCZ-RL; # of Axes: 3; -3dB Bandwidth: 1.6 KHz; Sensitivity: 256/128/64/32 LSB/g; Supply Current: 140 uA; Voltage Supply (V): 2.0 to 3.6; DatasheetVersion: Rev. D; PackageVersion: 03-16-2010-A, 03/2010; PackageReference: CC-14-1; PackageDescription: 14-Pin Land Grid Array, 3 x 5 mm Body, 0.8 mm Pitch; Supplier 1: Digi-Key; Supplier Part Number 1: ADXL345BCCZ-RLTR-ND; Supplier 2: Digi-Key; Supplier Part Number 2: ADXL345BCCZ-RLCT-ND; Supplier 3: Digi-Key; Supplier Part Number 3: ADXL345BCCZ-RLDKR-ND; Supplier 4: Newark; Supplier Part Number 4: 05R6570; Supplier 5: Mouser; Supplier Part Number 5: 584-ADXL345BCCZ-R; Output Type: Digital; Packing: Reel; Mounting Technology: Surface Mount; ComponentLink1Description: Manufacturer URL; ComponentLink1URL: http://www.analog.com/en/index.html; ComponentLink2Description: Datasheet; ComponentLink2URL: http://www.analog.com/static/imported-files/data_sheets/ADXL345.pdf; ComponentLink3Description: Package Specification; ComponentLink3URL: http://www.analog.com/static/imported-files/data_sheets/ADXL343.pdf; ComponentLink4Description: Product URL; ComponentLink4URL: http://www.analog.com/en/mems-sensors/mems-inertial-sensors/adxl345/products/product.html
footprint ADI-CC-14-1_V (QFN, 14-Leads, Body 5x3mm, Pitch 0.8mm)
pins: 1 VDD I/O (power) "Digital Interface Supply Voltage.", 2 GND (power) "This pin must be connected to ground.", 3 RESERVED "Reserved. This pin must be connected to VS or left open.", 4 GND (power) "This pin must be connected to ground.", 5 GND (power) "This pin must be connected to ground.", 6 VS (power) "Supply Voltage.", 7 ~{CS} (in) "Chip Select.", 8 INT1 (out) "Interrupt 1 Output.", 9 INT2 (out) "Interrupt 2 Output.", 10 NC "Not Internally Connected.", 11 RESERVED "Reserved. This pin must be connected to ground or left open.", 12 SDO/ALT ADDRESS (io) "Serial Data Output (SPI 4-Wire)/Alternate I2C Address Select (I2C).", 13 SDA/SDI/SDIO (io) "Serial Data (I2C)/Serial Data Input (SPI 4-Wire)/Serial Data Input and Output (SPI 3-Wire).", 14 SCL/SCLK (in) "Serial Communications Clock. SCL is the clock for I2C, and SCLK is the clock for SPI."

## ADXL345BCCZ-RL7
designator U?
3-Axis, +/-2 g / +/-4 g / +/-8 g / +/-16 g Digital Accelerometer with Digital Output, 1.6 KHz BW, Industrial, 14-pin LGA, Reel; Manufacturer: Analog Devices; PartNumber: ADXL345BCCZ-RL7; # of Axes: 3; -3dB Bandwidth: 1.6 KHz; Sensitivity: 256/128/64/32 LSB/g; Supply Current: 140 uA; Voltage Supply (V): 2.0 to 3.6; DatasheetVersion: Rev. D; PackageVersion: 03-16-2010-A, 03/2010; PackageReference: CC-14-1; PackageDescription: 14-Pin Land Grid Array, 3 x 5 mm Body, 0.8 mm Pitch; Supplier 1: Digi-Key; Supplier Part Number 1: ADXL345BCCZ-RL7TR-ND; Supplier 2: Digi-Key; Supplier Part Number 2: ADXL345BCCZ-RL7CT-ND; Supplier 3: Digi-Key; Supplier Part Number 3: ADXL345BCCZ-RL7DKR-ND; Supplier 4: Newark; Supplier Part Number 4: 05R6571; Supplier 5: Mouser; Supplier Part Number 5: 584-ADXL345BCCZ-R7; Output Type: Digital; Packing: Reel; Mounting Technology: Surface Mount; ComponentLink1Description: Manufacturer URL; ComponentLink1URL: http://www.analog.com/en/index.html; ComponentLink2Description: Datasheet; ComponentLink2URL: http://www.analog.com/static/imported-files/data_sheets/ADXL345.pdf; ComponentLink3Description: Package Specification; ComponentLink3URL: http://www.analog.com/static/imported-files/data_sheets/ADXL343.pdf; ComponentLink4Description: Product URL; ComponentLink4URL: http://www.analog.com/en/mems-sensors/mems-inertial-sensors/adxl345/products/product.html
footprint ADI-CC-14-1_V (QFN, 14-Leads, Body 5x3mm, Pitch 0.8mm)
pins: 1 VDD I/O (power) "Digital Interface Supply Voltage.", 2 GND (power) "This pin must be connected to ground.", 3 RESERVED "Reserved. This pin must be connected to VS or left open.", 4 GND (power) "This pin must be connected to ground.", 5 GND (power) "This pin must be connected to ground.", 6 VS (power) "Supply Voltage.", 7 ~{CS} (in) "Chip Select.", 8 INT1 (out) "Interrupt 1 Output.", 9 INT2 (out) "Interrupt 2 Output.", 10 NC "Not Internally Connected.", 11 RESERVED "Reserved. This pin must be connected to ground or left open.", 12 SDO/ALT ADDRESS (io) "Serial Data Output (SPI 4-Wire)/Alternate I2C Address Select (I2C).", 13 SDA/SDI/SDIO (io) "Serial Data (I2C)/Serial Data Input (SPI 4-Wire)/Serial Data Input and Output (SPI 3-Wire).", 14 SCL/SCLK (in) "Serial Communications Clock. SCL is the clock for I2C, and SCLK is the clock for SPI."

## ADXL345TCCZ-EP
designator U?
3-Axis, +/-2 g / +/-4 g / +/-8 g / +/-16 g Digital Accelerometer with Digital Output, 1.6 KHz BW, Industrial, 14-pin LGA, Tray; Manufacturer: Analog Devices; PartNumber: ADXL345TCCZ-EP; # of Axes: 3; -3dB Bandwidth: 1.6 KHz; Sensitivity: 256/128/64/32 LSB/g; Supply Current: 140 uA; Voltage Supply (V): 2.0 to 3.6; DatasheetVersion: Rev. A; PackageVersion: 03-16-2010-A, 03/2010; PackageReference: CC-14-1; PackageDescription: 14-Pin Land Grid Array, 3 x 5 mm Body, 0.8 mm Pitch; Supplier 1: Digi-Key; Supplier Part Number 1: ADXL345TCCZ-EP-ND; Supplier 2: Newark; Supplier Part Number 2: 82T3687; Supplier 3: Mouser; Supplier Part Number 3: 584-ADXL345TCCZ-EP; Output Type: Digital; Packing: Tray; Mounting Technology: Surface Mount; ComponentLink1Description: Manufacturer URL; ComponentLink1URL: http://www.analog.com/en/index.html; ComponentLink2Description: Datasheet; ComponentLink2URL: http://www.analog.com/static/imported-files/data_sheets/ADXL345-EP.pdf; ComponentLink3Description: Package Specification; ComponentLink3URL: http://www.analog.com/static/imported-files/data_sheets/ADXL343.pdf; ComponentLink4Description: Product URL; ComponentLink4URL: http://www.analog.com/en/mems-sensors/mems-inertial-sensors/adxl345/products/product.html
footprint ADI-CC-14-1_V (QFN, 14-Leads, Body 5x3mm, Pitch 0.8mm)
pins: 1 VDD I/O (power) "Digital Interface Supply Voltage.", 2 GND (power) "This pin must be connected to ground.", 3 RESERVED "Reserved. This pin must be connected to VS or left open.", 4 GND (power) "This pin must be connected to ground.", 5 GND (power) "This pin must be connected to ground.", 6 VS (power) "Supply Voltage.", 7 ~{CS} (in) "Chip Select.", 8 INT1 (out) "Interrupt 1 Output.", 9 INT2 (out) "Interrupt 2 Output.", 10 NC "Not Internally Connected.", 11 RESERVED "Reserved. This pin must be connected to ground or left open.", 12 SDO/ALT ADDRESS (io) "Serial Data Output (SPI 4-Wire)/Alternate I2C Address Select (I2C).", 13 SDA/SDI/SDIO (io) "Serial Data (I2C)/Serial Data Input (SPI 4-Wire)/Serial Data Input and Output (SPI 3-Wire).", 14 SCL/SCLK (in) "Serial Communications Clock. SCL is the clock for I2C, and SCLK is the clock for SPI."

## ADXL345TCCZ-EP-RL
designator U?
3-Axis, +/-2 g / +/-4 g / +/-8 g / +/-16 g Digital Accelerometer with Digital Output, 1.6 KHz BW, Industrial, 14-pin LGA, Reel; Manufacturer: Analog Devices; PartNumber: ADXL345TCCZ-EP-RL; # of Axes: 3; -3dB Bandwidth: 1.6 KHz; Sensitivity: 256/128/64/32 LSB/g; Supply Current: 140 uA; Voltage Supply (V): 2.0 to 3.6; DatasheetVersion: Rev. A; PackageVersion: 03-16-2010-A, 03/2010; PackageReference: CC-14-1; PackageDescription: 14-Pin Land Grid Array, 3 x 5 mm Body, 0.8 mm Pitch; Supplier 1: Digi-Key; Supplier Part Number 1: ADXL345TCCZ-EP-RL-ND; Supplier 2: Mouser; Supplier Part Number 2: 584-ADXL345TCCZ-EP-R; Output Type: Digital; Packing: Reel; Mounting Technology: Surface Mount; ComponentLink1Description: Manufacturer URL; ComponentLink1URL: http://www.analog.com/en/index.html; ComponentLink2Description: Datasheet; ComponentLink2URL: http://www.analog.com/static/imported-files/data_sheets/ADXL345-EP.pdf; ComponentLink3Description: Package Specification; ComponentLink3URL: http://www.analog.com/static/imported-files/data_sheets/ADXL343.pdf; ComponentLink4Description: Product URL; ComponentLink4URL: http://www.analog.com/en/mems-sensors/mems-inertial-sensors/adxl345/products/product.html
footprint ADI-CC-14-1_V (QFN, 14-Leads, Body 5x3mm, Pitch 0.8mm)
pins: 1 VDD I/O (power) "Digital Interface Supply Voltage.", 2 GND (power) "This pin must be connected to ground.", 3 RESERVED "Reserved. This pin must be connected to VS or left open.", 4 GND (power) "This pin must be connected to ground.", 5 GND (power) "This pin must be connected to ground.", 6 VS (power) "Supply Voltage.", 7 ~{CS} (in) "Chip Select.", 8 INT1 (out) "Interrupt 1 Output.", 9 INT2 (out) "Interrupt 2 Output.", 10 NC "Not Internally Connected.", 11 RESERVED "Reserved. This pin must be connected to ground or left open.", 12 SDO/ALT ADDRESS (io) "Serial Data Output (SPI 4-Wire)/Alternate I2C Address Select (I2C).", 13 SDA/SDI/SDIO (io) "Serial Data (I2C)/Serial Data Input (SPI 4-Wire)/Serial Data Input and Output (SPI 3-Wire).", 14 SCL/SCLK (in) "Serial Communications Clock. SCL is the clock for I2C, and SCLK is the clock for SPI."

## ADXL345TCCZ-EP-RL7
designator U?
3-Axis, +/-2 g / +/-4 g / +/-8 g / +/-16 g Digital Accelerometer with Digital Output, 1.6 KHz BW, Industrial, 14-pin LGA, Reel; Manufacturer: Analog Devices; PartNumber: ADXL345TCCZ-EP-RL7; # of Axes: 3; -3dB Bandwidth: 1.6 KHz; Sensitivity: 256/128/64/32 LSB/g; Supply Current: 140 uA; Voltage Supply (V): 2.0 to 3.6; DatasheetVersion: Rev. A; PackageVersion: 03-16-2010-A, 03/2010; PackageReference: CC-14-1; PackageDescription: 14-Pin Land Grid Array, 3 x 5 mm Body, 0.8 mm Pitch; Supplier 1: Digi-Key; Supplier Part Number 1: ADXL345TCCZ-EP-RL7-ND; Supplier 2: Newark; Supplier Part Number 2: 82T3689; Supplier 3: Mouser; Supplier Part Number 3: 584-ADXL345TCCZEPR7; Output Type: Digital; Packing: Reel; Mounting Technology: Surface Mount; ComponentLink1Description: Manufacturer URL; ComponentLink1URL: http://www.analog.com/en/index.html; ComponentLink2Description: Datasheet; ComponentLink2URL: http://www.analog.com/static/imported-files/data_sheets/ADXL345-EP.pdf; ComponentLink3Description: Package Specification; ComponentLink3URL: http://www.analog.com/static/imported-files/data_sheets/ADXL343.pdf; ComponentLink4Description: Product URL; ComponentLink4URL: http://www.analog.com/en/mems-sensors/mems-inertial-sensors/adxl345/products/product.html
footprint ADI-CC-14-1_V (QFN, 14-Leads, Body 5x3mm, Pitch 0.8mm)
pins: 1 VDD I/O (power) "Digital Interface Supply Voltage.", 2 GND (power) "This pin must be connected to ground.", 3 RESERVED "Reserved. This pin must be connected to VS or left open.", 4 GND (power) "This pin must be connected to ground.", 5 GND (power) "This pin must be connected to ground.", 6 VS (power) "Supply Voltage.", 7 ~{CS} (in) "Chip Select.", 8 INT1 (out) "Interrupt 1 Output.", 9 INT2 (out) "Interrupt 2 Output.", 10 NC "Not Internally Connected.", 11 RESERVED "Reserved. This pin must be connected to ground or left open.", 12 SDO/ALT ADDRESS (io) "Serial Data Output (SPI 4-Wire)/Alternate I2C Address Select (I2C).", 13 SDA/SDI/SDIO (io) "Serial Data (I2C)/Serial Data Input (SPI 4-Wire)/Serial Data Input and Output (SPI 3-Wire).", 14 SCL/SCLK (in) "Serial Communications Clock. SCL is the clock for I2C, and SCLK is the clock for SPI."

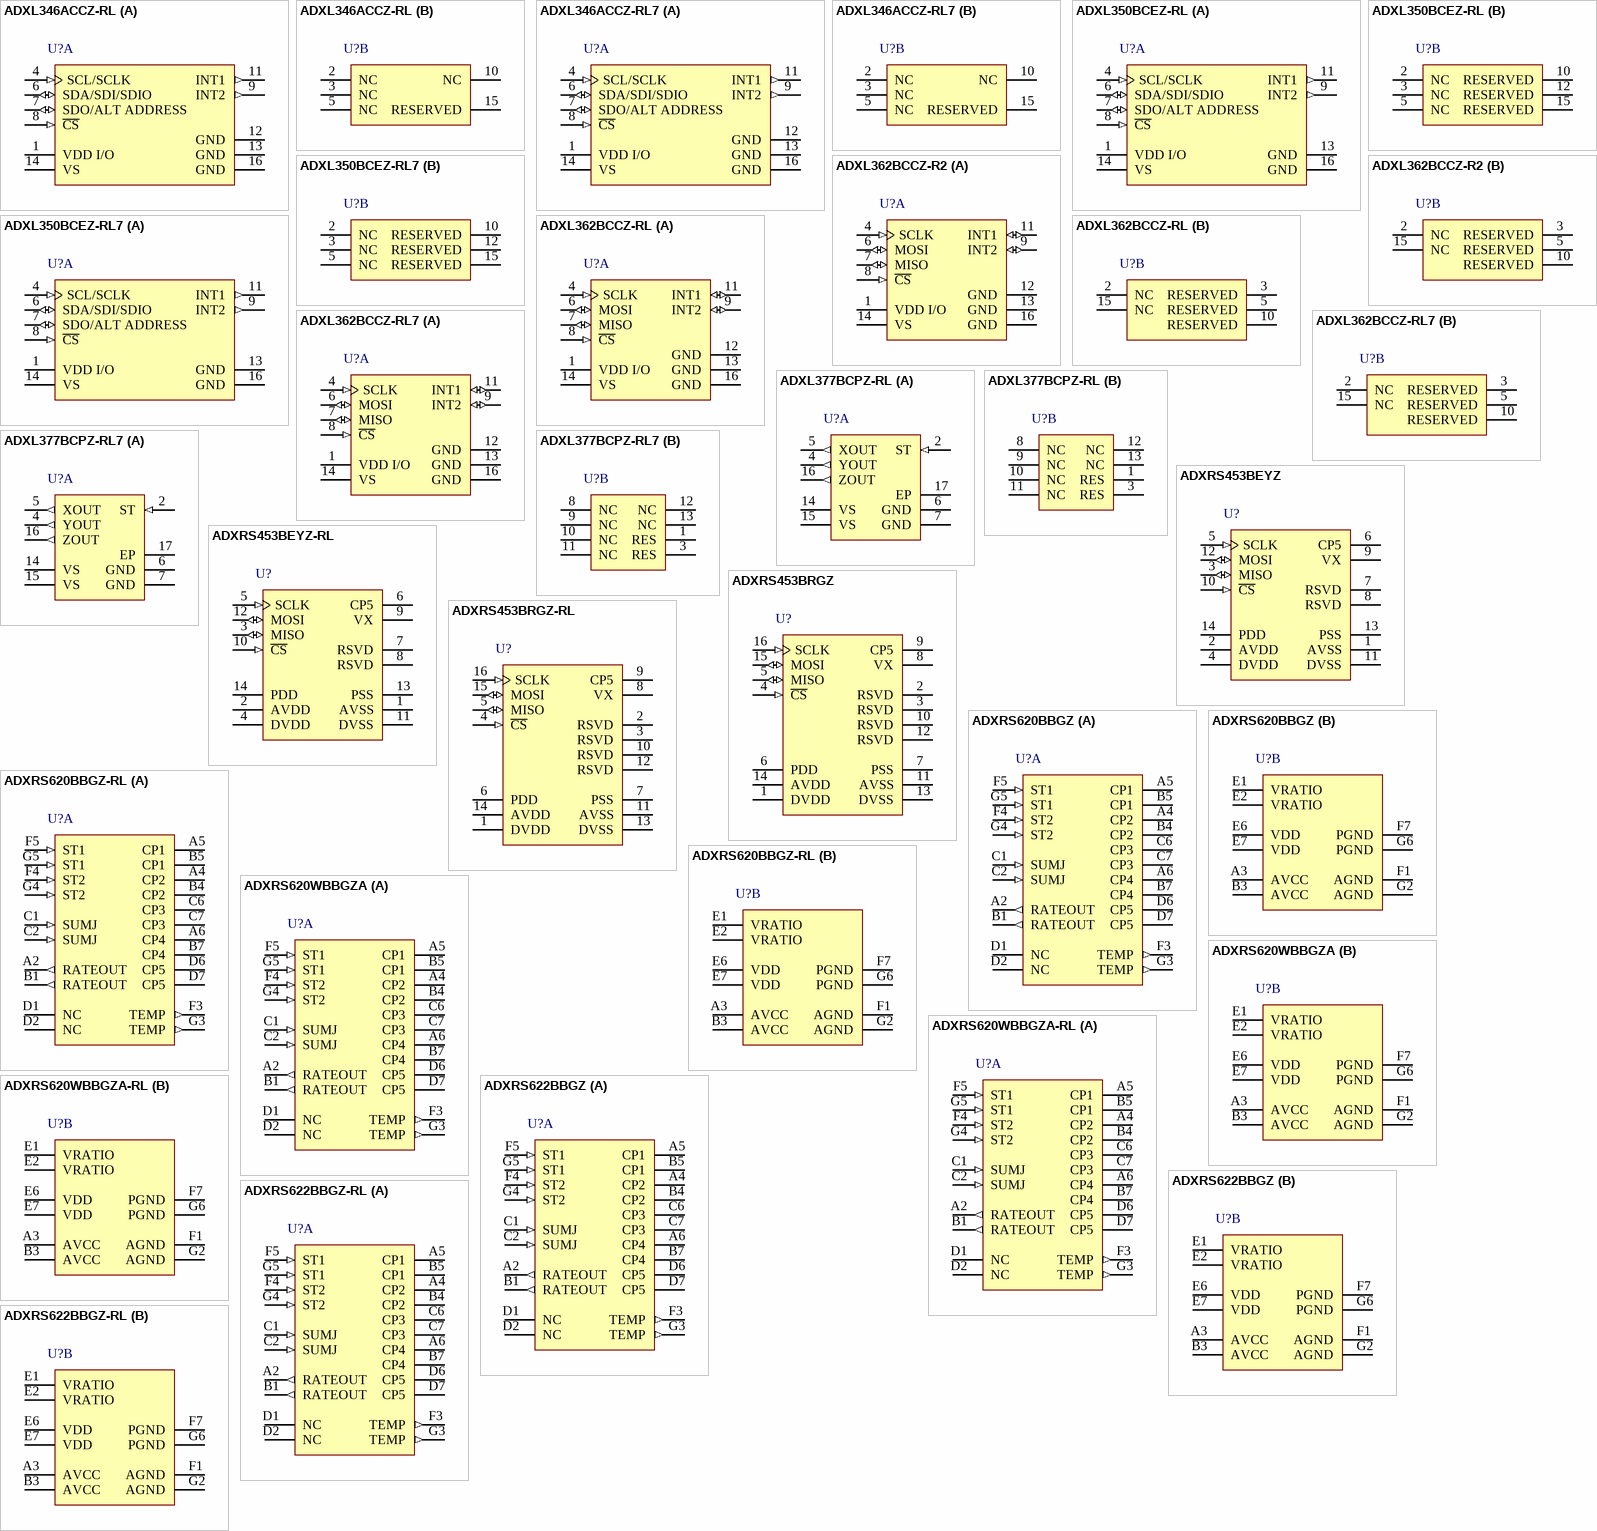
[diagram p3: symbols ADXL346ACCZ-RL to ADXRS622BBGZ-RL]